# EAGLE library part SN74LVC574APWR (library n64-rgb-dac)
Octal edge-triggered D-type flip-flop,TSSOP-20
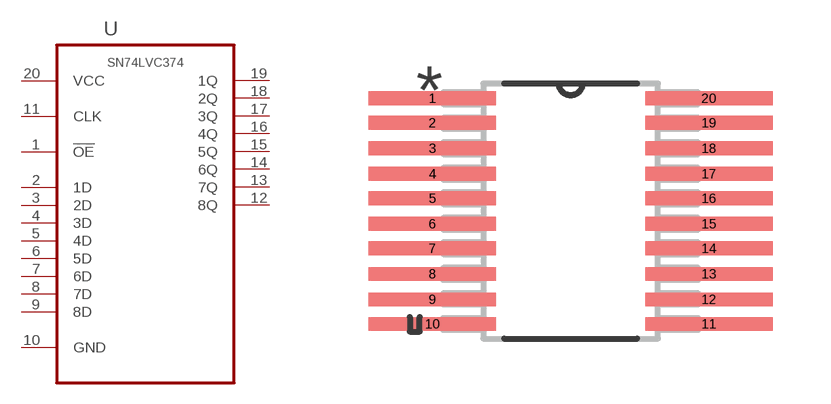
[diagram p7: symbol with the pads of SOP65P640X120-20N; footprint SOP65P640X120-20N]

Designator prefix U

## SN74LVC574APWR (MPN: SN74LVC574APWR; OC_FARNELL: 2120455; OC_NEWARK: 94T5069; PACKAGE: TSSOP-20; SUPPLIER: TEXAS INSTRUMENTS)  [SOP65P640X120-20N]
1  !OE  in
2  1D  in
3  2D  in
4  3D  in
5  4D  in
6  5D  in
7  6D  in
8  7D  in
9  8D  in
10  GND  pas
11  CLK  in
12  8Q  out
13  7Q  out
14  6Q  out
15  5Q  out
16  4Q  out
17  3Q  out
18  2Q  out
19  1Q  out
20  VCC  pwr

## Footprint SOP65P640X120-20N (pad centres in mm)
smd 3.302 x 0.356: 1 -3.581,2.921; 2 -3.581,2.286; 3 -3.581,1.626; 4 -3.581,0.965; 5 -3.581,0.33; 6 -3.581,-0.33; 7 -3.581,-0.965; 8 -3.581,-1.626; 9 -3.581,-2.286; 10 -3.581,-2.921; 11 3.581,-2.921; 12 3.581,-2.286; 13 3.581,-1.626; 14 3.581,-0.965; 15 3.581,-0.33; 16 3.581,0.33; 17 3.581,0.965; 18 3.581,1.626; 19 3.581,2.286; 20 3.581,2.921